# Altium footprint library PcbLib1.PcbLib: 25 footprints (part 2 of 2)
Each footprint in its own frame and in the unit in brackets; x right, y up, seen from the top. Pads: shape width x height; smd on the part's side, far side on the other; paste and mask are expansions set on the pad; w line width, h text height; cw(c..) or ccw(c..) is an arc to the next point about the centre after c.
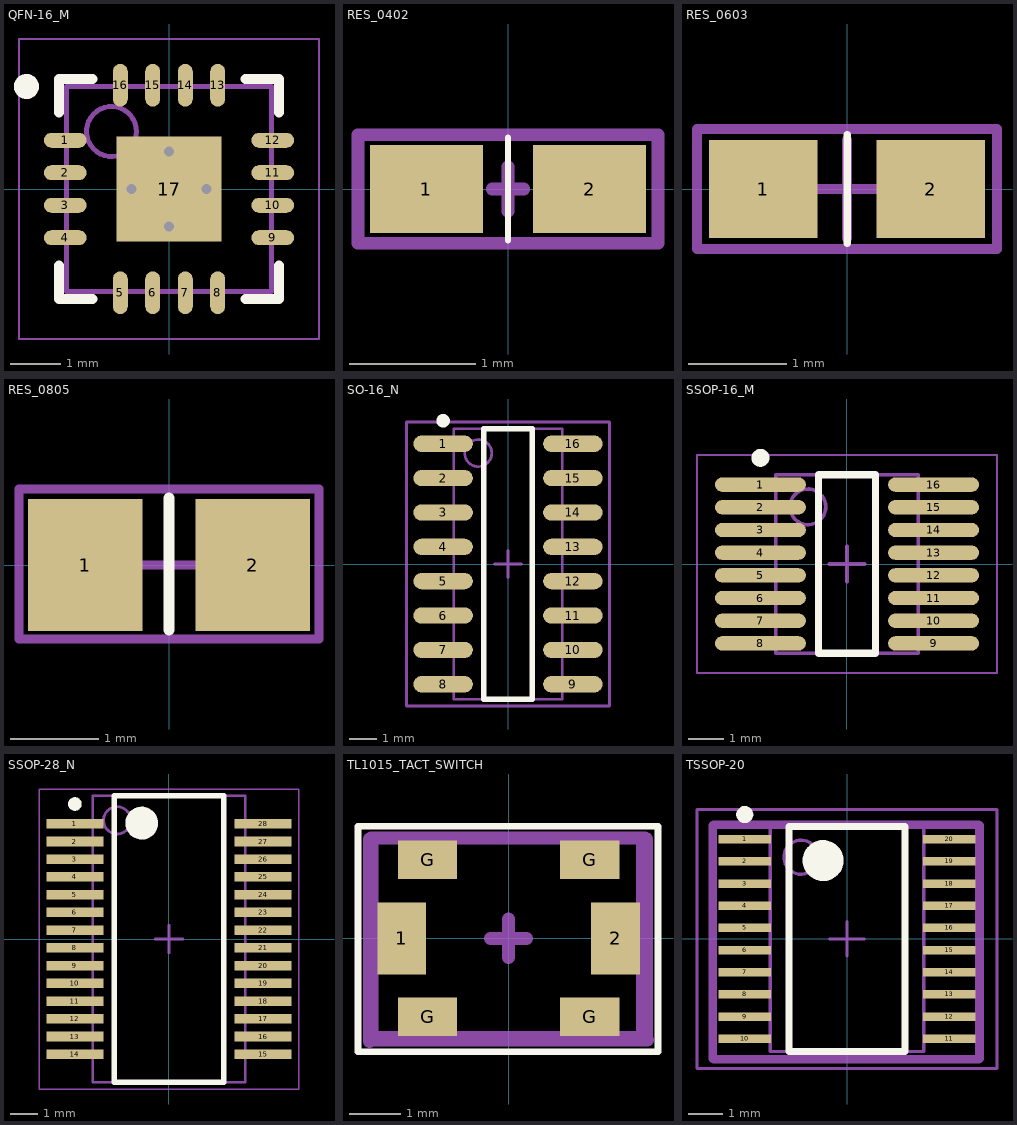
[diagram p1: the footprints below, top view; thin cyan lines are the x and y axes]

## QFN-16_M [mm] "QFN, 16-Leads, Body 4x4mm, Pitch 0.65mm, Thermal Pad 2.1x2.1mm, IPC Low Density"
height 0.8
pads (17):
  oval 0.85x0.3 smd: 1(-2.075,0.975) 2(-2.075,0.325) 3(-2.075,-0.325) 4(-2.075,-0.975) 9(2.075,-0.975) 10(2.075,-0.325) 11(2.075,0.325) 12(2.075,0.975)
  oval 0.3x0.85 smd: 5(-0.975,-2.075) 6(-0.325,-2.075) 7(0.325,-2.075) 8(0.975,-2.075) 13(0.975,2.075) 14(0.325,2.075) 15(-0.325,2.075) 16(-0.975,2.075)
  rect 2.1x2.1 smd paste-1.05: 17(0,0)
via 0,-0.75 diameter 0.5 hole 0.2
via 0,0.75 diameter 0.5 hole 0.2
via -0.75,0 diameter 0.5 hole 0.2
via 0.75,0 diameter 0.5 hole 0.2
Top Overlay:
  circle w0.25: c-2.85,2.05 r0.125
  lines w0.2: -2.2,-1.525 -2.2,-2.2 -1.525,-2.2 ; -2.2,1.525 -2.2,2.2 -1.525,2.2 ; 1.525,-2.2 2.2,-2.2 2.2,-1.525 ; 1.525,2.2 2.2,2.2 2.2,1.525
Top Paste:
  rectangle: -0.95,-0.95 0.95,0.95
Mechanical 13:
  circle w0.1: c-1.15,1.15 r0.5
  lines w0.1: -2.05,-2.05 -2.05,2.05 2.05,2.05 2.05,-2.05 -2.05,-2.05
Mechanical 15:
  lines w0.05: -3,-3 -3,3 3,3 3,-3 -3,-3
  lines w0.1: -0.5,0 0.5,0 ; 0,-0.5 0,0.5
3D body: height 0.8, standoff 0, extent -2.05,-2.05 2.05,2.05

## RES_0402 [mm]
pads (2):
  rect 0.9x0.7 smd: 1(-0.65,0) 2(0.65,0)
Top Overlay:
  lines w0.051: 0,-0.406 0,0.406
Mechanical 15:
  lines w0.1: -0.127,0 0.127,0 ; 0,-0.178 0,0.178 ; -1.194,-0.432 1.194,-0.432 1.194,0.432 -1.194,0.432 -1.194,-0.432
3D body: height 0.37, standoff 0.02, extent -0.525,-0.25 0.475,0.25

## RES_0603 [mm]
pads (2):
  rect 1.1x1 smd: 1(-0.85,0) 2(0.85,0)
Top Overlay:
  lines w0.076: 0,-0.55 0,0.55
Mechanical 15:
  lines w0.1: -0.5,0 0.5,0 ; 0,-0.5 0,0.5 ; -1.524,-0.61 1.524,-0.61 1.524,0.61 -1.524,0.61 -1.524,-0.61
3D body: height 0.47, standoff 0.02, extent -0.775,-0.374 0.825,0.426

## RES_0805 [mm]
pads (2):
  rect 1.3x1.5 smd: 1(-0.95,0) 2(0.95,0)
Top Overlay:
  lines w0.127: 0,-0.737 0,0.762
Mechanical 15:
  lines w0.1: -0.5,0 0.5,0 ; 0,-0.5 0,0.5 ; -1.702,-0.838 1.702,-0.838 1.702,0.864 -1.702,0.864 -1.702,-0.838
3D body: height 0.62, standoff 0.02, extent -1.041,-0.625 0.959,0.625

## SO-16_N [mm] "SOIC, 16-Leads, Body 9.9x3.9mm, Pitch 1.27mm, IPC Medium Density"
height 1.75
pads (16):
  oval 2.2x0.6 smd: 1(-2.4,4.445) 2(-2.4,3.175) 3(-2.4,1.905) 4(-2.4,0.635) 5(-2.4,-0.635) 6(-2.4,-1.905) 7(-2.4,-3.175) 8(-2.4,-4.445) 9(2.4,-4.445) 10(2.4,-3.175) 11(2.4,-1.905) 12(2.4,-0.635) 13(2.4,0.635) 14(2.4,1.905) 15(2.4,3.175) 16(2.4,4.445)
Top Overlay:
  circle w0.25: c-2.4,5.295 r0.125
  lines w0.2: -0.9,-5 -0.9,5 0.9,5 0.9,-5 -0.9,-5
Mechanical 13:
  circle w0.1: c-1.1,4.1 r0.5
  lines w0.1: -2,-5 -2,5 2,5 2,-5 -2,-5
Mechanical 15:
  lines w0.1: -0.5,0 0.5,0 ; 0,-0.5 0,0.5 ; -3.75,-5.25 -3.75,5.25 3.75,5.25 3.75,-5.25 -3.75,-5.25
3D body: height 1.59, standoff -0.01, extent -2.972,-4.953 3.023,4.953

## SSOP-16_M [mm] "SOP, 16-Leads, Body 4.9x3.9mm, Pitch 0.635mm, IPC Low Density"
height 1.76
pads (16):
  oval 2.55x0.4 smd: 1(-2.425,2.222) 2(-2.425,1.587) 3(-2.425,0.953) 4(-2.425,0.318) 5(-2.425,-0.318) 6(-2.425,-0.953) 7(-2.425,-1.587) 8(-2.425,-2.222) 9(2.425,-2.222) 10(2.425,-1.587) 11(2.425,-0.953) 12(2.425,-0.318) 13(2.425,0.318) 14(2.425,0.953) 15(2.425,1.587) 16(2.425,2.222)
Top Overlay:
  circle w0.25: c-2.425,2.973 r0.125
  lines w0.2: -0.8,-2.5 -0.8,2.5 0.8,2.5 0.8,-2.5 -0.8,-2.5
Mechanical 13:
  circle w0.1: c-1.095,1.6 r0.5
  lines w0.1: -1.995,-2.5 -1.995,2.5 1.995,2.5 1.995,-2.5 -1.995,-2.5
Mechanical 15:
  lines w0.05: -4.2,-3.05 -4.2,3.05 4.2,3.05 4.2,-3.05 -4.2,-3.05
  lines w0.1: -0.5,0 0.5,0 ; 0,-0.5 0,0.5
3D body: height 1.76, standoff 0.1, extent -1.995,-2.5 1.995,2.5

## SSOP-28_N [mm] "SOP, 28-Leads, Body 10.2x5.3mm, Pitch 0.65mm, IPC Medium Density"
height 2
pads (28):
  rect 2.1x0.35 smd: 1(-3.45,4.225) 2(-3.45,3.575) 3(-3.45,2.925) 4(-3.45,2.275) 5(-3.45,1.625) 6(-3.45,0.975) 7(-3.45,0.325) 8(-3.45,-0.325) 9(-3.45,-0.975) 10(-3.45,-1.625) 11(-3.45,-2.275) 12(-3.45,-2.925) 13(-3.45,-3.575) 14(-3.45,-4.225) 15(3.45,-4.225) 16(3.45,-3.575) 17(3.45,-2.925) 18(3.45,-2.275) 19(3.45,-1.625) 20(3.45,-0.975) 21(3.45,-0.325) 22(3.45,0.325) 23(3.45,0.975) 24(3.45,1.625) 25(3.45,2.275) 26(3.45,2.925) 27(3.45,3.575) 28(3.45,4.225)
Top Overlay:
  circle w0.25: c-3.45,4.95 r0.125
  circle w0.6: c-1,4.25 r0.3
  lines w0.2: -2,-5.25 -2,5.25 2,5.25 2,-5.25 -2,-5.25
Mechanical 13:
  circle w0.1: c-1.9,4.35 r0.5
  lines w0.1: -2.8,-5.25 -2.8,5.25 2.8,5.25 2.8,-5.25 -2.8,-5.25
Mechanical 15:
  lines w0.05: -4.75,-5.5 -4.75,5.5 4.75,5.5 4.75,-5.5 -4.75,-5.5
  lines w0.1: -0.5,0 0.5,0 ; 0,-0.5 0,0.5
3D body: height 2, standoff 0.05, extent -2.8,-5.25 2.8,5.25

## TL1015_TACT_SWITCH [mm]
pads (6):
  rect 0.95x1.4 smd: 1(-2.075,0) 2(2.075,0)
  rect 1.15x0.75 smd: G(-1.575,-1.525) G(-1.575,1.525) G(1.575,-1.525) G(1.575,1.525)
Top Overlay:
  lines w0.127: -2.925,-2.2 -2.925,2.175 2.9,2.175 2.9,-2.2 -2.925,-2.2
Mechanical 11:
  lines w0.254: -2.7,1.925 -2.7,-2 -2.675,-1.975 2.7,-1.975 2.675,-1.95 2.675,1.925 2.65,1.95 -2.675,1.95
  text ".designator" at -2.375,0.8 h0.76
Mechanical 15:
  lines w0.254: -0.35,0 0.35,0 ; 0,-0.375 0,0.375 ; -2.65,-1.925 2.6,-1.925 2.6,1.95 -2.65,1.95 -2.65,-1.925
3D body: height 1.8, standoff 0, extent -2.2,-1.45 2.2,1.55

## TSSOP-20 [mm]
pads (20):
  rect 1.55x0.25 smd: 1(-3.001,2.921) 2(-3.001,2.271) 3(-3.001,1.621) 4(-3.001,0.971) 5(-3.001,0.321) 6(-3.001,-0.329) 7(-3.001,-0.979) 8(-3.001,-1.629) 9(-3.001,-2.279) 10(-3.001,-2.929) 11(2.999,-2.929) 12(2.999,-2.279) 13(2.999,-1.629) 14(2.999,-0.979) 15(2.999,-0.329) 16(2.999,0.321) 17(2.999,0.971) 18(2.999,1.621) 19(2.999,2.271) 20(2.999,2.921)
Top Overlay:
  circle w0.25: c-3.001,3.646 r0.125
  circle w0.6: c-0.701,2.296 r0.3
  lines w0.2: -1.701,-3.304 -1.701,3.296 1.699,3.296 1.699,-3.304 -1.701,-3.304
Mechanical 11:
  lines w0.254: -3.938,-3.509 -3.938,-2.493 -3.938,3.323 ; -3.913,-3.535 3.859,-3.535 ; -3.913,3.349 3.859,3.349 3.885,3.323 3.885,2.307 3.885,-3.509
  text ".comment" at -2.821,-1.376 h1.52
  text ".designator" at -2.922,1.291 h1.52
Mechanical 13:
  circle w0.1: c-1.351,2.396 r0.5
  lines w0.1: -2.251,-3.304 -2.251,3.296 2.249,3.296 2.249,-3.304 -2.251,-3.304
Mechanical 15:
  lines w0.1: -0.501,-0.004 0.499,-0.004 ; -0.001,-0.504 -0.001,0.496 ; -4.401,-3.804 -4.401,3.796 4.399,3.796 4.399,-3.804 -4.401,-3.804
3D body: height 1.2, standoff 0, extent -2.251,-3.304 2.249,3.296